# EAGLE library part 1825057-2 (library Switches)
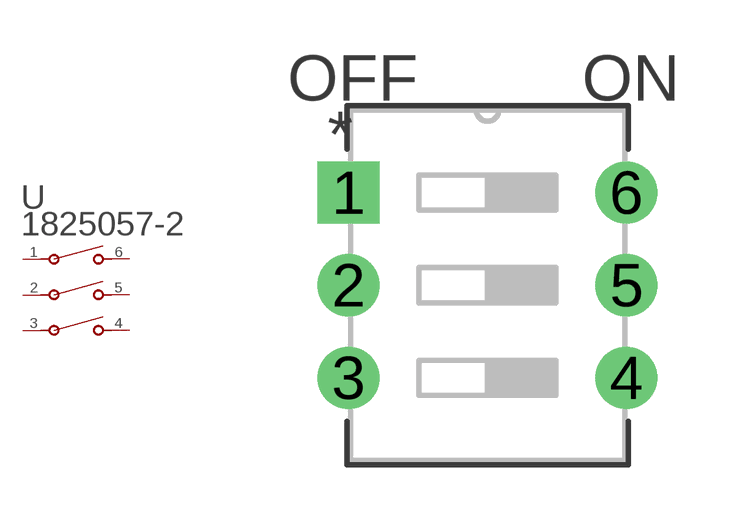
[diagram p36: symbol with the pads of SWDIP6_300X138P100; footprint SWDIP6_300X138P100]

Designator prefix U

## 1825057-2 (BUILT_BY: EMA_UL_Team; CATEGORY: DIP & SIP Switches; COPYRIGHT: Copyright (C) 2016 Accelerated Designs. All rights reserved; DESCRIPTION: ADE0304=DIP SWITCH,EXT,THRU/HL; MANUFACTURER_PART_NUMBER: 1825057-2; PART_STATUS: active; SERIES: Alcoswitch DIP,Alcoswitch DIP ADE; VENDOR: TE Connectivity)  [SWDIP6_300X138P100]
1  1  pas
2  2  pas
3  3  pas
4  4  pas
5  5  pas
6  6  pas

## Footprint SWDIP6_300X138P100 (pad centres in mm)
drill 0.965 pad 1.702 square: 1 -7.62,5.08
drill 0.965 pad 1.702: 2 -7.62,2.54; 3 -7.62,0; 4 0,0; 5 0,2.54; 6 0,5.08